# Altium schematic symbol library TBP02R1-381-06BE.SchLib: 1 symbol
Pins are listed as number, name and electrical type; pins without a type are passive.

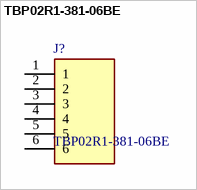
[diagram p0: symbol TBP02R1-381-06BE]

## TBP02R1-381-06BE
designator J?
2~24 Poles, Pluggable,Receptacle, Horizontal, 3.81 Pitch, Terminal Block Connector; Manufacturer_Name: Same Sky; Geometry.Height: 7.2mm; Mouser Part Number: 490-TBP02R1-381-06BE; Mouser Price/Stock: https://www.mouser.co.uk/ProductDetail/CUI-Devices/TBP02R1-381-06BE?qs=PzGy0jfpSMusbQ6fY%252Bjf%252BQ%3D%3D; Manufacturer_Part_Number: TBP02R1-381-06BE; Datasheet Link: https://www.sameskydevices.com/product/resource/supplyframepdf/tbp02r1-381.pdf
footprint SHDR6W80P0X381_1X6_2365X920X720P
pins: 1, 2, 3, 4, 5, 6